# Altium footprint library L-PE-N_Connector.PcbLib: 1 footprints
Each footprint in its own frame and in the unit in brackets; x right, y up, seen from the top. Pads: shape width x height; smd on the part's side, far side on the other; paste and mask are expansions set on the pad; w line width, h text height; cw(c..) or ccw(c..) is an arc to the next point about the centre after c.
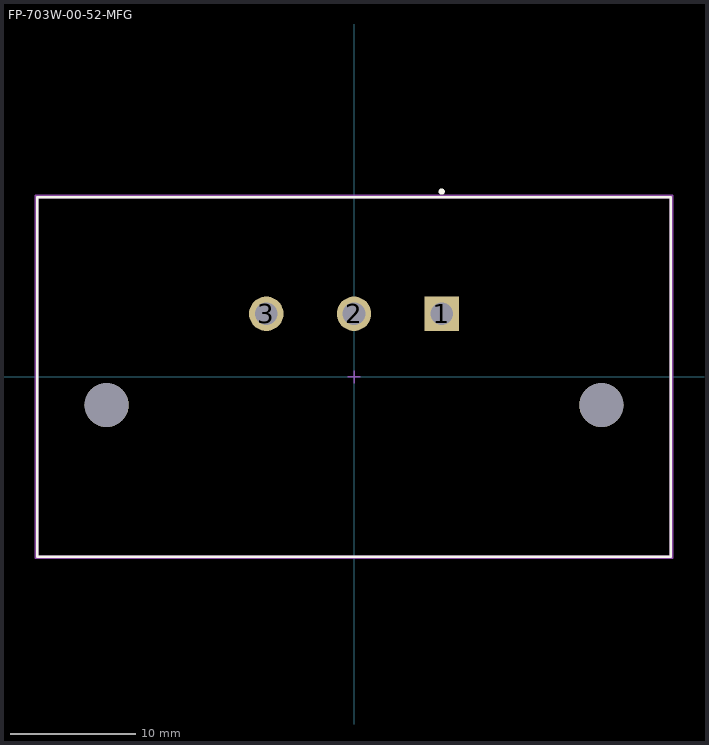
[diagram p0: the footprint, top view; thin cyan lines are the x and y axes]

## FP-703W-00-52-MFG [mm]
pads (5):
  rect 2.75x2.75 hole 1.8 paste-1000 mask+0: 1(7,5.05)
  round 2.75 hole 1.8 paste-1000 mask+0: 2(0,5.05) 3(-7,5.05)
  round 3.5 hole 3.5 unplated paste-1000 mask+0: ""(-19.75,-2.25) ""(19.75,-2.25)
Top Overlay:
  circle w0.25: c7,14.8 r0.125
  lines w0.2: -25.3,-14.35 25.3,-14.35 25.3,14.35 -25.3,14.35 -25.3,-14.35
Top Assembly:
  lines w0.2: -25.4,-14.45 25.4,-14.45 25.4,14.45 -25.4,14.45 -25.4,-14.45
  text ".Designator" at 0,0.188 h1
Top 3D Body:
  lines w0.2: -25.3,-14.35 25.3,-14.35 25.3,14.35 -25.3,14.35 -25.3,-14.35
Top Courtyard:
  lines w0.2: -25.4,-14.45 25.4,-14.45 25.4,14.45 -25.4,14.45 -25.4,-14.45
Top Component Center:
  lines w0.1: -0.5,0 0.5,0 ; 0,-0.5 0,0.5
3D body "Conn_Qualtek_703W-00-52_eec.STEP": height 0.25, standoff 0, extent -25.4,-14.45 25.4,14.45